# Altium schematic symbol library TC264.SchLib: 64 symbols (part 1 of 2)
Pins are listed as number, name and electrical type; pins without a type are passive.

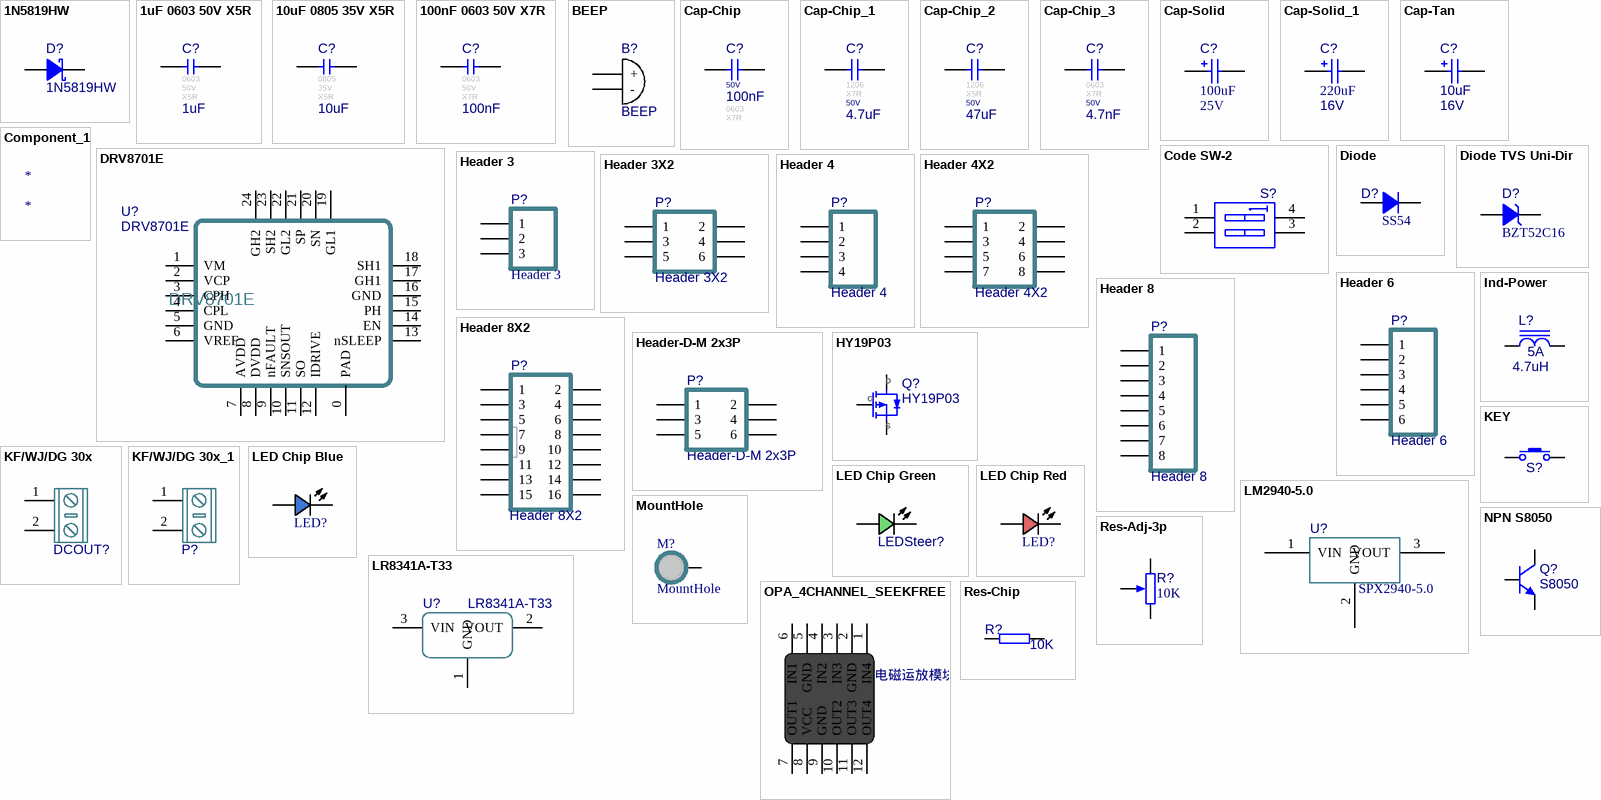
[diagram p0: symbols 1N5819HW to Res-Chip]

## 1N5819HW
designator D?
1N5819HW 肖特基二极管; Revision: V1.0; Value: 1N5819HW
footprint SOD-123-L (SOD Diode;2.70mm W X 1.60mm L X 1.35mm H body)
footprint SOD-323 (SOD Diode;1.65mm W X 1.24mm L X 1.16mm H body)
pins: A, K

## 1uF 0603 50V X5R
designator C?, comment value 1uF  FootPrint: 0603  Voltage: 50V  Type: X5R  (hidden comment: 1uF 50V X5R)
贴片瓷片电容; MLCC; 0603(1608);; Revision: V1.0
footprint CAPC1608[0603]-L (0603贴片电容 无丝印 2脚 1.60x0.80mm IPC高密度)
footprint CAPC1608[0603]-M (0603贴片电容 无丝印 2脚 1.60x0.80mm IPC低密度)
footprint CAPC1608[0603]-N (0603贴片电容 无丝印 2脚 1.60x0.80mm IPC中密度)
footprint CAPC1608[0603]S-L (0603贴片电容 有丝印 2脚 1.60x0.80mm IPC高密度)
footprint CAPC1608[0603]S-M (0603贴片电容 有丝印 2脚 1.60x0.80mm IPC低密度)
footprint CAPC1608[0603]S-N (0603贴片电容 有丝印 2脚 1.60x0.80mm IPC中密度)
pins: 1, 2

## 10uF 0805 35V X5R
designator C?, comment value 10uF  FootPrint: 0805  Voltage: 35V  Type: X5R  (hidden comment: 10uF 35V X5R)
贴片瓷片电容; MLCC; 0805(2012);; Revision: V1.0
footprint CAPC2012[0805] (0805贴片电容 无丝印 2脚 2.00x1.20mm IPC中密度)
footprint CAPC2012[0805]S-L (0805贴片电容 有丝印 2脚 2.00x1.20mm IPC高密度)
footprint CAPC2012[0805]S-M (0805贴片电容 有丝印 2脚 2.00x1.20mm IPC低密度)
footprint CAPC2012[0805]S-N (0805贴片电容 有丝印 2脚 2.00x1.20mm IPC中密度)
pins: 1, 2

## 100nF 0603 50V X7R
designator C?, comment value 100nF  FootPrint: 0603  Voltage: 50V  Type: X7R  (hidden comment: 100nF 50V X7R)
贴片瓷片电容; MLCC; 0603(1608);; Revision: V1.0
footprint CAPC1608[0603]-L (0603贴片电容 无丝印 2脚 1.60x0.80mm IPC高密度)
footprint CAPC1608[0603]-M (0603贴片电容 无丝印 2脚 1.60x0.80mm IPC低密度)
footprint CAPC1608[0603]-N (0603贴片电容 无丝印 2脚 1.60x0.80mm IPC中密度)
footprint CAPC1608[0603]S-L (0603贴片电容 有丝印 2脚 1.60x0.80mm IPC高密度)
footprint CAPC1608[0603]S-M (0603贴片电容 有丝印 2脚 1.60x0.80mm IPC低密度)
footprint CAPC1608[0603]S-N (0603贴片电容 有丝印 2脚 1.60x0.80mm IPC中密度)
pins: 1, 2

## BEEP
designator B?
蜂鸣器
footprint BEEP 9x5.5mm
footprint BEEP 12x9.5mm
pins: 1 +, 2 -

## Cap-Chip
designator C?, comment value 100nF  Voltage: 50V  Footprint: 0603  Type: X7R  (hidden comment: 100nF ±10% 50V)
贴片电容; Published: 2021-12-13; Revision: V1.2; Tolerance: ±10%
footprint CAPC1310[0504]S (Chip Capacitor, 2-Leads, Body 1.17x1.02mm, IPC Medium Density)
footprint CAPC3216[1206]S (1206贴片电容 有丝印 2脚 3.20x1.60mm IPC中密度)
footprint CAPC3225[1210]S (1210贴片电容 有丝印 2脚 3.20x2.50mm IPC中密度)
footprint CAPC4532[1812]S (Chip Capacitor, Silkscreen Border,2-Leads, Body 4.50x3.20mm, IPC Medium Density)
footprint CAPC4564[1825]S (Chip Capacitor,Silkscreen Border, 2-Leads, Body 4.50x6.40mm, IPC Medium Density)
footprint CAPC2012[0805] (0805贴片电容 无丝印 2脚 2.00x1.20mm IPC中密度)
footprint CAPC3216[1206] (1206贴片电容 无丝印 2脚 3.20x1.60mm IPC中密度)
footprint CAPC3225[1210] (1210贴片电容 无丝印 2脚 3.20x2.50mm IPC中密度)
footprint CAPC4532[1812] (Chip Capacitor, 2-Leads, Body 4.50x3.20mm, IPC Medium Density)
footprint CAPC4564[1825] (Chip Capacitor, 2-Leads, Body 4.50x6.40mm, IPC Medium Density)
footprint CAPC1608[0603]-N (0603贴片电容 无丝印 2脚 1.60x0.80mm IPC中密度)
footprint CAPC1608[0603]-L (0603贴片电容 无丝印 2脚 1.60x0.80mm IPC高密度)
footprint CAPC1608[0603]-M (0603贴片电容 无丝印 2脚 1.60x0.80mm IPC低密度)
footprint CAPC1608[0603]S-L (0603贴片电容 有丝印 2脚 1.60x0.80mm IPC高密度)
footprint CAPC1608[0603]S-M (0603贴片电容 有丝印 2脚 1.60x0.80mm IPC低密度)
footprint CAPC1608[0603]S-N (0603贴片电容 有丝印 2脚 1.60x0.80mm IPC中密度)
footprint CAPC1005[0402]-L (0402贴片电容 无丝印 2脚 1.00x0.50mm IPC高密度)
footprint CAPC1005[0402]-M (0402贴片电容 无丝印 2脚 1.00x0.50mm IPC低密度)
footprint CAPC1005[0402]-N (0402贴片电容 无丝印 2脚 1.00x0.50mm IPC中密度)
footprint CAPC1005[0402]S-L (0402贴片电容 有丝印 2脚 1.00x0.50mm IPC高密度)
footprint CAPC1005[0402]S-M (0402贴片电容 有丝印 2脚 1.00x0.50mm IPC低密度)
footprint CAPC1005[0402]S-N (0402贴片电容 有丝印 2脚 1.00x0.50mm IPC中密度)
footprint CAPC2012[0805]S-L (0805贴片电容 有丝印 2脚 2.00x1.20mm IPC高密度)
footprint CAPC2012[0805]S-M (0805贴片电容 有丝印 2脚 2.00x1.20mm IPC低密度)
footprint CAPC2012[0805]S-N (0805贴片电容 有丝印 2脚 2.00x1.20mm IPC中密度)
footprint CAPC0603[0201]-L (0201贴片电容 无丝印 2脚 0.60x0.30mm IPC高密度)
footprint CAPC0603[0201]-N (0201贴片电容 无丝印 2脚 0.60x0.30mm IPC中密度)
footprint CAPC0603[0201]-M (0201贴片电容 无丝印 2脚 0.60x0.30mm IPC低密度)
footprint CAPC0603[0201]S-L (0201贴片电容 有丝印 2脚 0.60x0.30mm IPC高密度)
footprint CAPC0603[0201]S-M (0201贴片电容 有丝印 2脚 0.60x0.30mm IPC低密度)
footprint CAPC0603[0201]S-N (0201贴片电容 有丝印 2脚 0.60x0.30mm IPC中密度)
pins: 1, 2

## Cap-Chip_1
designator C?, comment value 4.7uF  Footprint: 1206  Type: X7R  Voltage: 50V  (hidden comment: 4.7uF ±10% 50V)
贴片电容; Published: 2021-12-13; Revision: V1.2; Tolerance: ±10%
footprint CAPC1310[0504]S (Chip Capacitor, 2-Leads, Body 1.17x1.02mm, IPC Medium Density)
footprint CAPC3216[1206]S (1206贴片电容 有丝印 2脚 3.20x1.60mm IPC中密度)
footprint CAPC3225[1210]S (1210贴片电容 有丝印 2脚 3.20x2.50mm IPC中密度)
footprint CAPC4532[1812]S (Chip Capacitor, Silkscreen Border,2-Leads, Body 4.50x3.20mm, IPC Medium Density)
footprint CAPC4564[1825]S (Chip Capacitor,Silkscreen Border, 2-Leads, Body 4.50x6.40mm, IPC Medium Density)
footprint CAPC2012[0805] (0805贴片电容 无丝印 2脚 2.00x1.20mm IPC中密度)
footprint CAPC3216[1206] (1206贴片电容 无丝印 2脚 3.20x1.60mm IPC中密度)
footprint CAPC3225[1210] (1210贴片电容 无丝印 2脚 3.20x2.50mm IPC中密度)
footprint CAPC4532[1812] (Chip Capacitor, 2-Leads, Body 4.50x3.20mm, IPC Medium Density)
footprint CAPC4564[1825] (Chip Capacitor, 2-Leads, Body 4.50x6.40mm, IPC Medium Density)
footprint CAPC1608[0603]-N (0603贴片电容 无丝印 2脚 1.60x0.80mm IPC中密度)
footprint CAPC1608[0603]-L (0603贴片电容 无丝印 2脚 1.60x0.80mm IPC高密度)
footprint CAPC1608[0603]-M (0603贴片电容 无丝印 2脚 1.60x0.80mm IPC低密度)
footprint CAPC1608[0603]S-L (0603贴片电容 有丝印 2脚 1.60x0.80mm IPC高密度)
footprint CAPC1608[0603]S-M (0603贴片电容 有丝印 2脚 1.60x0.80mm IPC低密度)
footprint CAPC1608[0603]S-N (0603贴片电容 有丝印 2脚 1.60x0.80mm IPC中密度)
footprint CAPC1005[0402]-L (0402贴片电容 无丝印 2脚 1.00x0.50mm IPC高密度)
footprint CAPC1005[0402]-M (0402贴片电容 无丝印 2脚 1.00x0.50mm IPC低密度)
footprint CAPC1005[0402]-N (0402贴片电容 无丝印 2脚 1.00x0.50mm IPC中密度)
footprint CAPC1005[0402]S-L (0402贴片电容 有丝印 2脚 1.00x0.50mm IPC高密度)
footprint CAPC1005[0402]S-M (0402贴片电容 有丝印 2脚 1.00x0.50mm IPC低密度)
footprint CAPC1005[0402]S-N (0402贴片电容 有丝印 2脚 1.00x0.50mm IPC中密度)
footprint CAPC2012[0805]S-L (0805贴片电容 有丝印 2脚 2.00x1.20mm IPC高密度)
footprint CAPC2012[0805]S-M (0805贴片电容 有丝印 2脚 2.00x1.20mm IPC低密度)
footprint CAPC2012[0805]S-N (0805贴片电容 有丝印 2脚 2.00x1.20mm IPC中密度)
footprint CAPC0603[0201]-L (0201贴片电容 无丝印 2脚 0.60x0.30mm IPC高密度)
footprint CAPC0603[0201]-N (0201贴片电容 无丝印 2脚 0.60x0.30mm IPC中密度)
footprint CAPC0603[0201]-M (0201贴片电容 无丝印 2脚 0.60x0.30mm IPC低密度)
footprint CAPC0603[0201]S-L (0201贴片电容 有丝印 2脚 0.60x0.30mm IPC高密度)
footprint CAPC0603[0201]S-M (0201贴片电容 有丝印 2脚 0.60x0.30mm IPC低密度)
footprint CAPC0603[0201]S-N (0201贴片电容 有丝印 2脚 0.60x0.30mm IPC中密度)
pins: 1, 2

## Cap-Chip_2
designator C?, comment value 47uF  Footprint: 1206  Type: X5R  Voltage: 50V  (hidden comment: 47uF ±10% 50V)
贴片电容; Published: 2021-12-13; Revision: V1.2; Tolerance: ±10%
footprint CAPC1310[0504]S (Chip Capacitor, 2-Leads, Body 1.17x1.02mm, IPC Medium Density)
footprint CAPC3216[1206]S (1206贴片电容 有丝印 2脚 3.20x1.60mm IPC中密度)
footprint CAPC3225[1210]S (1210贴片电容 有丝印 2脚 3.20x2.50mm IPC中密度)
footprint CAPC4532[1812]S (Chip Capacitor, Silkscreen Border,2-Leads, Body 4.50x3.20mm, IPC Medium Density)
footprint CAPC4564[1825]S (Chip Capacitor,Silkscreen Border, 2-Leads, Body 4.50x6.40mm, IPC Medium Density)
footprint CAPC2012[0805] (0805贴片电容 无丝印 2脚 2.00x1.20mm IPC中密度)
footprint CAPC3216[1206] (1206贴片电容 无丝印 2脚 3.20x1.60mm IPC中密度)
footprint CAPC3225[1210] (1210贴片电容 无丝印 2脚 3.20x2.50mm IPC中密度)
footprint CAPC4532[1812] (Chip Capacitor, 2-Leads, Body 4.50x3.20mm, IPC Medium Density)
footprint CAPC4564[1825] (Chip Capacitor, 2-Leads, Body 4.50x6.40mm, IPC Medium Density)
footprint CAPC1608[0603]-N (0603贴片电容 无丝印 2脚 1.60x0.80mm IPC中密度)
footprint CAPC1608[0603]-L (0603贴片电容 无丝印 2脚 1.60x0.80mm IPC高密度)
footprint CAPC1608[0603]-M (0603贴片电容 无丝印 2脚 1.60x0.80mm IPC低密度)
footprint CAPC1608[0603]S-L (0603贴片电容 有丝印 2脚 1.60x0.80mm IPC高密度)
footprint CAPC1608[0603]S-M (0603贴片电容 有丝印 2脚 1.60x0.80mm IPC低密度)
footprint CAPC1608[0603]S-N (0603贴片电容 有丝印 2脚 1.60x0.80mm IPC中密度)
footprint CAPC1005[0402]-L (0402贴片电容 无丝印 2脚 1.00x0.50mm IPC高密度)
footprint CAPC1005[0402]-M (0402贴片电容 无丝印 2脚 1.00x0.50mm IPC低密度)
footprint CAPC1005[0402]-N (0402贴片电容 无丝印 2脚 1.00x0.50mm IPC中密度)
footprint CAPC1005[0402]S-L (0402贴片电容 有丝印 2脚 1.00x0.50mm IPC高密度)
footprint CAPC1005[0402]S-M (0402贴片电容 有丝印 2脚 1.00x0.50mm IPC低密度)
footprint CAPC1005[0402]S-N (0402贴片电容 有丝印 2脚 1.00x0.50mm IPC中密度)
footprint CAPC2012[0805]S-L (0805贴片电容 有丝印 2脚 2.00x1.20mm IPC高密度)
footprint CAPC2012[0805]S-M (0805贴片电容 有丝印 2脚 2.00x1.20mm IPC低密度)
footprint CAPC2012[0805]S-N (0805贴片电容 有丝印 2脚 2.00x1.20mm IPC中密度)
footprint CAPC0603[0201]-L (0201贴片电容 无丝印 2脚 0.60x0.30mm IPC高密度)
footprint CAPC0603[0201]-N (0201贴片电容 无丝印 2脚 0.60x0.30mm IPC中密度)
footprint CAPC0603[0201]-M (0201贴片电容 无丝印 2脚 0.60x0.30mm IPC低密度)
footprint CAPC0603[0201]S-L (0201贴片电容 有丝印 2脚 0.60x0.30mm IPC高密度)
footprint CAPC0603[0201]S-M (0201贴片电容 有丝印 2脚 0.60x0.30mm IPC低密度)
footprint CAPC0603[0201]S-N (0201贴片电容 有丝印 2脚 0.60x0.30mm IPC中密度)
pins: 1, 2

## Cap-Chip_3
designator C?, comment value 4.7nF  Footprint: 0603  Type: X7R  Voltage: 50V  (hidden comment: 4.7nF ±10% 50V)
贴片电容; Published: 2021-12-13; Revision: V1.2; Tolerance: ±10%
footprint CAPC1310[0504]S (Chip Capacitor, 2-Leads, Body 1.17x1.02mm, IPC Medium Density)
footprint CAPC3216[1206]S (1206贴片电容 有丝印 2脚 3.20x1.60mm IPC中密度)
footprint CAPC3225[1210]S (1210贴片电容 有丝印 2脚 3.20x2.50mm IPC中密度)
footprint CAPC4532[1812]S (Chip Capacitor, Silkscreen Border,2-Leads, Body 4.50x3.20mm, IPC Medium Density)
footprint CAPC4564[1825]S (Chip Capacitor,Silkscreen Border, 2-Leads, Body 4.50x6.40mm, IPC Medium Density)
footprint CAPC2012[0805] (0805贴片电容 无丝印 2脚 2.00x1.20mm IPC中密度)
footprint CAPC3216[1206] (1206贴片电容 无丝印 2脚 3.20x1.60mm IPC中密度)
footprint CAPC3225[1210] (1210贴片电容 无丝印 2脚 3.20x2.50mm IPC中密度)
footprint CAPC4532[1812] (Chip Capacitor, 2-Leads, Body 4.50x3.20mm, IPC Medium Density)
footprint CAPC4564[1825] (Chip Capacitor, 2-Leads, Body 4.50x6.40mm, IPC Medium Density)
footprint CAPC1608[0603]-N (0603贴片电容 无丝印 2脚 1.60x0.80mm IPC中密度)
footprint CAPC1608[0603]-L (0603贴片电容 无丝印 2脚 1.60x0.80mm IPC高密度)
footprint CAPC1608[0603]-M (0603贴片电容 无丝印 2脚 1.60x0.80mm IPC低密度)
footprint CAPC1608[0603]S-L (0603贴片电容 有丝印 2脚 1.60x0.80mm IPC高密度)
footprint CAPC1608[0603]S-M (0603贴片电容 有丝印 2脚 1.60x0.80mm IPC低密度)
footprint CAPC1608[0603]S-N (0603贴片电容 有丝印 2脚 1.60x0.80mm IPC中密度)
footprint CAPC1005[0402]-L (0402贴片电容 无丝印 2脚 1.00x0.50mm IPC高密度)
footprint CAPC1005[0402]-M (0402贴片电容 无丝印 2脚 1.00x0.50mm IPC低密度)
footprint CAPC1005[0402]-N (0402贴片电容 无丝印 2脚 1.00x0.50mm IPC中密度)
footprint CAPC1005[0402]S-L (0402贴片电容 有丝印 2脚 1.00x0.50mm IPC高密度)
footprint CAPC1005[0402]S-M (0402贴片电容 有丝印 2脚 1.00x0.50mm IPC低密度)
footprint CAPC1005[0402]S-N (0402贴片电容 有丝印 2脚 1.00x0.50mm IPC中密度)
footprint CAPC2012[0805]S-L (0805贴片电容 有丝印 2脚 2.00x1.20mm IPC高密度)
footprint CAPC2012[0805]S-M (0805贴片电容 有丝印 2脚 2.00x1.20mm IPC低密度)
footprint CAPC2012[0805]S-N (0805贴片电容 有丝印 2脚 2.00x1.20mm IPC中密度)
footprint CAPC0603[0201]-L (0201贴片电容 无丝印 2脚 0.60x0.30mm IPC高密度)
footprint CAPC0603[0201]-N (0201贴片电容 无丝印 2脚 0.60x0.30mm IPC中密度)
footprint CAPC0603[0201]-M (0201贴片电容 无丝印 2脚 0.60x0.30mm IPC低密度)
footprint CAPC0603[0201]S-L (0201贴片电容 有丝印 2脚 0.60x0.30mm IPC高密度)
footprint CAPC0603[0201]S-M (0201贴片电容 有丝印 2脚 0.60x0.30mm IPC低密度)
footprint CAPC0603[0201]S-N (0201贴片电容 有丝印 2脚 0.60x0.30mm IPC中密度)
pins: 1, 2

## Cap-Solid
designator C?, comment value 100uF  Voltage: 25V  (hidden comment: 100uF 25V)
Polarized Capacitor (Radial); Published: 8-Jun-2000; Revision: July-2002: Re-released for DXP Platform.; Publisher: Altium Limited; Price(RMB): 0.000
footprint CAPS4 (Solid Electorlytic Capacitor, B-type Footprint, 4mm Diameter, 5.5mm Height)
footprint CAPS5 (Solid Electorlytic Capacitor, D-type Footprint, 5mm Diameter, 5.5mm Height)
footprint CAPS6.3 (Solid Electorlytic Capacitor, E-type Footprint, 6.3mm Diameter, 5.5mm Height)
footprint CAPS8 (Solid Electorlytic Capacitor, G-type Footprint, 8mm Diameter, 10mm Height)
footprint CAPS10 (Solid Electorlytic Capacitor, H-type Footprint, 10mm Diameter, 10mm Height)
pins: 1, 2

## Cap-Solid_1
designator C?, comment value 220uF  Voltage: 16V  (hidden comment: 220uF 16V)
Polarized Capacitor (Radial); Published: 8-Jun-2000; Revision: July-2002: Re-released for DXP Platform.; Publisher: Altium Limited; Price(RMB): 0.000
footprint CAPS4 (Solid Electorlytic Capacitor, B-type Footprint, 4mm Diameter, 5.5mm Height)
footprint CAPS5 (Solid Electorlytic Capacitor, D-type Footprint, 5mm Diameter, 5.5mm Height)
footprint CAPS6.3 (Solid Electorlytic Capacitor, E-type Footprint, 6.3mm Diameter, 5.5mm Height)
footprint CAPS8 (Solid Electorlytic Capacitor, G-type Footprint, 8mm Diameter, 10mm Height)
footprint CAPS10 (Solid Electorlytic Capacitor, H-type Footprint, 10mm Diameter, 10mm Height)
pins: 1, 2

## Cap-Tan
designator C?, comment value 10uF  Voltage: 16V  (hidden comment: 10uF 16V)
Tantalum Capacitor; Published: 8-Jun-2000; Revision: July-2002: Re-released for DXP Platform.; Publisher: Altium Limited; Price(RMB): 0.000
footprint CAPT3216 (Molded (Tantalum) Capacitor, 2-Leads, Body 3.20x1.60mm, IPC Medium Density)
footprint CAPT3528 (Molded Tantalum Capacitor, 2-Leads, Body 3.50x2.80mm, IPC Medium Density)
footprint CAPT6032 (Molded Tantalum Capacitor, 2-Leads, Body 6.00x3.20mm, IPC Medium Density)
footprint CAPT7343 (Molded Tantalum Capacitor, 2-Leads, Body 7.30x4.30mm, IPC Medium Density)
footprint CAPT7361 (Molded Tantalum Capacitor, 2-Leads, Body 7.30x6.10mm, IPC Medium Density)
pins: 1, 2

## Code SW-2
designator S?, comment SW DIP-2  (value not drawn)
2位拨码开关; Published: 24-Mar-1999; Revision: July-2002: Re-released for DXP Platform.; Publisher: Altium Limited; Price(RMB): 0.000
footprint Code SW-2-SMD-1.27 (1.27间距 表贴式 2位 拨码开关)
footprint Code SW-2-DIP-2.54 (2位直插拨码开关 间距2.54)
pins: 1 A1, 2 A2, 3 B2, 4 B1

## Component_1
designator *

## Diode
designator D?, comment SS54
普通二极管 Diode; Imax: 500mA; Published: 8-Jun-2000; Revision: July-2002: Re-released for DXP Platform.; Publisher: Altium Limited; Price(RMB): 0.000
footprint SMB[DO-214AA] (Molded Diode, 2-Leads, Body 5.30x3.55mm, IPC Medium Density)
footprint SMC[DO-214AB] (Molded Diode, 2-Leads, Body 7.94x5.90mm, IPC Medium Density)
footprint SMA[DO-214AC] (Molded Diode, 2-Leads, Body 5.00x2.49mm, IPC Medium Density)
footprint SOD-123-FL (SOD Diode;2.70mm W X 1.60mm L X 1.35mm H body)
footprint SOD-123-M (SOD Diode;2.70mm W X 1.60mm L X 1.35mm H body)
footprint SOD-323 (SOD Diode;1.65mm W X 1.24mm L X 1.16mm H body)
footprint SOD-523-L (SODFL Diode;1.20mm W X 0.80mm L X 0.70mm H body)
footprint SOD-523-M (SODFL Diode;1.20mm W X 0.80mm L X 0.70mm H body)
footprint SOD-123-L (SOD Diode;2.70mm W X 1.60mm L X 1.35mm H body)
pins: A, K

## Diode TVS Uni-Dir
designator D?, comment BZT52C16
TRANSIENT VOLTAGE  SUPPRESSOR DIODE; Imax: 500mA; Published: 8-Jun-2000; Publisher: Altium Limited; Price(RMB): 0.000
footprint DO-41 (Diode,Axial;8.30mm C X 0.70mm W 4.60mm L X 2.40mm Dia)
footprint SMA[DO-214AC] (Molded Diode, 2-Leads, Body 5.00x2.49mm, IPC Medium Density)
footprint SMB[DO-214AA] (Molded Diode, 2-Leads, Body 5.30x3.55mm, IPC Medium Density)
footprint SMC[DO-214AB] (Molded Diode, 2-Leads, Body 7.94x5.90mm, IPC Medium Density)
footprint SOD-123-FL (SOD Diode;2.70mm W X 1.60mm L X 1.35mm H body)
footprint SOD-323 (SOD Diode;1.65mm W X 1.24mm L X 1.16mm H body)
footprint SOD-123-L (SOD Diode;2.70mm W X 1.60mm L X 1.35mm H body)
footprint SOD-523-L (SODFL Diode;1.20mm W X 0.80mm L X 0.70mm H body)
footprint SOD-123-M (SOD Diode;2.70mm W X 1.60mm L X 1.35mm H body)
footprint SOD-523-M (SODFL Diode;1.20mm W X 0.80mm L X 0.70mm H body)
pins: A, K

## DRV8701E
designator U?
DRV8701E Ti全桥驱动芯片
footprint QFN24-4x4
pins: 0 PAD, 1 VM, 2 VCP, 3 CPH, 4 CPL, 5 GND, 6 VREF, 7 AVDD, 8 DVDD, 9 nFAULT, 10 SNSOUT, 11 SO, 12 IDRIVE, 13 nSLEEP, 14 EN, 15 PH, 16 GND, 17 GH1, 18 SH1, 19 GL1, 20 SN, 21 SP, 22 GL2, 23 SH2, 24 GH2

## Header 3
designator P?
Header, 3-Pin; LatestRevisionDate: 17-Jul-2002; LatestRevisionNote: Re-released for DXP Platform.; Publisher: Altium Limited; Price(RMB): 0.00
footprint HDR1X3 (Connector; Header; 3 Position)
signal-integrity model Connector
footprint XH2.54-3
footprint VH3.96-3
footprint PH2.0-3
footprint GH1.25T-3P (线对板 1.25mm间距 3P 表贴连接座)
footprint XH2.54-3-L (XH2.54 卧式 三针白色插座)
footprint XH2.54-WS-3P (长：12.5mm，宽：8mm，高：6.1mm   淘宝ID:黄晶宝石   店铺网址:https://shop463601444.taobao.com)
footprint MX1.25T-3P-H (线对板 MX1.25mm间距 3P 平插 表贴连接座)
footprint MX1.25T-3P-V (线对板 MX1.25mm间距 3P 立式 表贴连接座)
pins: 1, 2, 3

## Header 3X2
designator P?
Header, 3-Pin, Dual row; LatestRevisionDate: 17-Jul-2002; LatestRevisionNote: Re-released for DXP Platform.; Publisher: Altium Limited; Price(RMB): 0.00
signal-integrity model Connector
footprint HDR2X3 (Connector; Header; 3x2 Position)
footprint HDR2X3-M-SMT
footprint HDR2X3-F-SMT (2x3pin, 2.54mm间距, SMT, 直排母)
pins: 1, 2, 3, 4, 5, 6

## Header 4
designator P?
Header, 4-Pin; LatestRevisionDate: 17-Jul-2002; LatestRevisionNote: Re-released for DXP Platform.; Publisher: Altium Limited; Price(RMB): 0.00
signal-integrity model Connector
footprint HDR1X4 (Connector; Header; 4 Position)
footprint XH2.54-4
footprint VH3.96-4
footprint PH2.0-4 (PH2.0 4 pin)
footprint HDR1X4_Download (4pin下载接口)
footprint HDR1X4-NS (2.54间距, 4Pin, 直插排针, 无丝印)
footprint GH1.25T-4P (线对板 1.25mm间距 4P 表贴连接座)
footprint XH2.54-4-L (XH2.54 卧式 四针白色插座)
footprint HDR1X4-TP (2.54mm间距,表面焊盘)
footprint HDR1X4-TP-NS (2.54mm间距,表面焊盘 无丝印)
pins: 1, 2, 3, 4

## Header 4X2
designator P?
Header, 4-Pin, Dual row; LatestRevisionDate: 17-Jul-2002; LatestRevisionNote: Re-released for DXP Platform.; Publisher: Altium Limited; Price(RMB): 0.00
footprint HDR2X4 (Connector; Header; 4x2 Position)
signal-integrity model Connector
footprint Female-Header-2.54-SMD-8
footprint HDR2X4-M-SMT (2x4pin, 2.54mm间距, SMT, 直排针)
footprint HDR2X4-F-SMT (2x4pin, 2.54mm间距, SMT, 直排母)
pins: 1, 2, 3, 4, 5, 6, 7, 8

## Header 6
designator P?
Header, 6-Pin; LatestRevisionDate: 17-Jul-2002; LatestRevisionNote: Re-released for DXP Platform.; Publisher: Altium Limited; Price(RMB): 0.00
footprint HDR1X6 (Connector; Header; 6 Position)
signal-integrity model Connector
footprint PH2.0-6 (PH2.0 9 pin)
footprint XH2.54-6
footprint VH3.96-6
footprint GH1.25T-6P (线对板 1.25mm间距 6P 表贴连接座)
footprint ZH1.5-WF-6P
pins: 1, 2, 3, 4, 5, 6

## Header 8
designator P?
Header, 8-Pin; LatestRevisionDate: 17-Jul-2002; LatestRevisionNote: Re-released for DXP Platform.; Publisher: Altium Limited; Price(RMB): 0.00
footprint HDR1X8 (Connector; Header; 8 Position)
signal-integrity model Connector
footprint XH2.54V-8
footprint XH2.54-8
footprint VH3.96-8
footprint PH2.0-8 (PH2.0 9 pin)
footprint GH1.25T-8P (线对板 1.25mm间距 8P 表贴连接座)
pins: 1, 2, 3, 4, 5, 6, 7, 8

## Header 8X2
designator P?
Header, 8-Pin, Dual row; LatestRevisionDate: 17-Jul-2002; LatestRevisionNote: Re-released for DXP Platform.; Publisher: Altium Limited; Price(RMB): 0.00
footprint HDR2X8 (Connector; Header; 8x2 Position)
signal-integrity model Connector
footprint IDC2.54-16
footprint HDR2X8-M-SMT (2x8pin, 2.54mm间距, SMT, 直排针)
footprint HDR2X8-F-SMT (2x8pin, 2.54mm间距, SMT, 直排母)
footprint HDR2X8-F-High (加高 2x8 直插排座)
pins: 1, 2, 3, 4, 5, 6, 7, 8, 9, 10, 11, 12, 13, 14, 15, 16

## Header-D-M 2x3P
designator P?
2x3pin, 直插, 双排针; Revision: V1.0; Value: Header-D-M 2x3P
footprint HDR2X3-M (2x3pin, 2.54mm间距, 直插, 直排针)
pins: 1, 2, 3, 4, 5, 6

## HY19P03
designator Q?
HY19P03 P-Channel MOSFET
footprint TO-252AA (D-PAK, 4-Leads, Body 6.1x6.5mm, Pitch 2.28mm, Lead Span 9.8mm, IPC Low Density)
pins: 1 D, 2 G, 3 S

## Ind-Power
designator L?, comment value 4.7uH  Imax: 5A  (hidden comment: 4.7uH 5A)
功率电感; DCR: .5m; Published: 8-Jun-2000; Revision: July-2002: Re-released for DXP Platform.; Publisher: Altium Limited; Price(RMB): 0.000
footprint CD31
footprint CD32
footprint CD42
footprint CD43
footprint CD52
footprint CD53
footprint CD54
footprint CD73
footprint CD75
footprint CD104
footprint CD105
footprint CD106
footprint 127 Shielded 12.5*12.5*7 (12.5mmx12.5mmx7mm 屏蔽电感)
footprint 0630 TPC 7*7*3 (12mmx12mmx6.5mm 一体成型功率电感)
footprint 1050 TPC 10*10*5 (12mmx12mmx6.5mm 一体成型功率电感)
footprint 1265 TPC 12*12*6.5 (12mmx12mmx6.5mm 一体成型功率电感)
footprint CD104R
footprint SLO2520
footprint 1365 TPC 13*13*6.5 (13mmx13mmx6.5mm 一体成型功率电感)
footprint INDUCTOR (工字电感 安装板专用封装)
footprint 0402 TPC 4*4*2 (4.2mm x 4.4mm x 2mm 一体成型功率电感)
pins: 1, 2

## KEY
designator S?, comment Button  (value not drawn)
按键; Published: 24-Mar-1999; Publisher: Altium Limited; Price(RMB): 0.000
footprint KEY-2-SMD-3*4 (龟仔按键 3*4)
footprint KEY-4-DIP-6*6 (6x6 直插按键封装)
footprint PTS810-3*4-CurvePin (3*4 白色 汽车遥控器贴片按键 包脚)
footprint KEY-2-SMD-3*6-L (3x6贴片按键 高密度)
footprint KEY-2-SMD-3*6-M (3x6贴片按键 低密度)
footprint KEY-4-SMD-6*6 (6x6贴片按键封装)
footprint KEY-2-SMD-Side-3*6*3.5 (7.6x3.5mm 侧按按键)
footprint KEY-4-SMD-12*12 (6x6贴片按键封装)
footprint TS-1809SM-A (3*3.5 贴片4脚按键 (TS-A015))
pins: 1, 2

## KF/WJ/DG 30x
designator DCOUT?, comment KF/WJ/DG 30x connecter  (value not drawn)
接线端子 2Pin
footprint KF/WJ/DG 301-2p-5.0mm (2P 5.08mm间距 接线端子)
pins: 1, 2

## KF/WJ/DG 30x_1
designator P?, comment KF/WJ/DG 30x connecter  (value not drawn)
接线端子 2Pin
footprint KF/WJ/DG 301-2p-5.0mm (2P 5.08mm间距 接线端子)
pins: 1, 2

## LED Chip Blue
designator LED?, comment 蓝色贴片LED  (value not drawn)
Color: Blue; Published: 8-Jun-2000; Revision: July-2002: Re-released for DXP Platform.; Publisher: Altium Limited; Price(RMB): 0.00
footprint LEDC1608(0603) (LED,Chip;1.60mm L X 0.80mm W X 0.80mm H)
footprint LEDC2012(0805) (LED,Chip;2.00mm L X 1.25mm W X 1.20mm H)
footprint LEDC3216(1206) (LED,Chip;3.20mm L X 1.60mm W X 1.30mm H)
footprint LEDC1608(0603)-L (LED,Chip;1.60mm L X 0.80mm W X 0.80mm H)
footprint LEDC2012(0805)-L (LED,Chip;2.00mm L X 1.25mm W X 1.20mm H)
footprint LEDC3216(1204) (LED,Chip;3.20mm L X 1.60mm W X 1.30mm H)
footprint LEDC3528-2 (3528 2脚 贴片LED)
pins: A, C

## LED Chip Green
designator LEDSteer?, comment 翠绿贴片LED  (value not drawn)
Published: 8-Jun-2000; Revision: July-2002: Re-released for DXP Platform.; Publisher: Altium Limited; Price(RMB): 0.00
footprint LEDC1608(0603) (LED,Chip;1.60mm L X 0.80mm W X 0.80mm H)
footprint LEDC2012(0805) (LED,Chip;2.00mm L X 1.25mm W X 1.20mm H)
footprint LEDC3216(1206) (LED,Chip;3.20mm L X 1.60mm W X 1.30mm H)
footprint LEDC1608(0603)-L (LED,Chip;1.60mm L X 0.80mm W X 0.80mm H)
footprint LEDC2012(0805)-L (LED,Chip;2.00mm L X 1.25mm W X 1.20mm H)
footprint LEDC3216(1204) (LED,Chip;3.20mm L X 1.60mm W X 1.30mm H)
footprint LEDC3528-2 (3528 2脚 贴片LED)
pins: A, C

## LED Chip Red
designator LED?, comment 红色贴片LED  (value not drawn)
Published: 8-Jun-2000; Revision: July-2002: Re-released for DXP Platform.; Publisher: Altium Limited; Price(RMB): 0.00
footprint LEDC1608(0603) (LED,Chip;1.60mm L X 0.80mm W X 0.80mm H)
footprint LEDC2012(0805) (LED,Chip;2.00mm L X 1.25mm W X 1.20mm H)
footprint LEDC3216(1206) (LED,Chip;3.20mm L X 1.60mm W X 1.30mm H)
footprint LEDC1608(0603)-L (LED,Chip;1.60mm L X 0.80mm W X 0.80mm H)
footprint LEDC2012(0805)-L (LED,Chip;2.00mm L X 1.25mm W X 1.20mm H)
footprint LEDC3216(1204) (LED,Chip;3.20mm L X 1.60mm W X 1.30mm H)
footprint LEDC3528-2 (3528 2脚 贴片LED)
pins: A, C

## LM2940-5.0
designator U?, comment SPX2940-5.0
5V LDO TO-263-3
footprint TO-263-3
pins: 1 VIN, 2 GND, 3 VOUT

## LR8341A-T33
designator U?
LDO Vin:40V  Vout:3.3V 100mA ±1% 55dB; Revision: V1.0; Value: LR8341A-T33
footprint SOT-23 (SOT23, 3-Leads, Body 2.90x2.40mm, Pitch 0.95mm, IPC Medium Density)
pins: 1 GND, 2 VOUT, 3 VIN

## MountHole
designator M?  (no BOM)
固定孔
footprint M3-MountHole
footprint M3-MountSlot (M3-MountHole)
footprint M3-MountSlot-Plated (M3-MountHole)
footprint M3-MountHole-4mm (M3-MountHole)
footprint M3-MountHole-5mm (M3-MountHole)
footprint M3-MountHole-6mm (M3-MountHole)
footprint M3-MountHole-7mm (M3-MountHole)
footprint M3-MountHole-8mm (M3-MountHole)
footprint M3-MountHole-9mm (M3-MountHole)
footprint M3-MountHole-10mm (M3-MountHole)
footprint M3-MountHole-11mm (M3-MountHole)
footprint M3-MountHole-12mm (M3-MountHole)
footprint M3-MountHole-13mm (M3-MountHole)
footprint M3-MountHole-14mm (M3-MountHole)
footprint M3-MountHole-15mm (M3-MountHole)
footprint M3-MountHole-16mm (M3-MountHole)
footprint M3-MountHole-17mm (M3-MountHole)
footprint M3-MountHole-18mm (M3-MountHole)
footprint M3-MountHole-19mm (M3-MountHole)
footprint M3-MountHole-20mm (M3-MountHole)
footprint M3-MountHole-Plated-D5.2 (M3-MountHole)
footprint M3-MountHole-Plated-D5.5 (M3-MountHole 外径5.5mm)
footprint M3-MountHole-Plated-D6 (M3-MountHole 外径6mm)
pins: 1

## NPN S8050
designator Q?, comment S8050
Discrete NPN Bipolar Transistor; Published: 8-Jun-2000; Revision: July-2002: Re-released for DXP Platform.; Publisher: Altium Limited; Price(RMB): 0.000; PartNumber: S8050
footprint SOT-23 (SOT23, 3-Leads, Body 2.90x2.40mm, Pitch 0.95mm, IPC Medium Density)
pins: 1 B, 2 E, 3 C

## OPA_4CHANNEL_SEEKFREE
designator 电磁运放模块?, comment OPA_MOD  (value not drawn)  (no BOM)
OPA module
footprint SEEKFREE_4CHANEL_OPAMOD
pins: 1 IN4, 2 GND, 3 IN3, 4 IN2, 5 GND, 6 IN1, 7 OUT1, 8 VCC, 9 GND, 10 OUT2, 11 OUT3, 12 OUT4

## Res-Adj-3p
designator R?, comment 10K
可调电阻; Value: 10K
footprint RESPOT3296 (Precise Multi-Winding Adjustable Resistor)
footprint RESPOTSMALL (Small Pot)
footprint EVM3-3x3ADJ (3x3贴片电位器)
footprint RESPOT3386P (3386P型 单圈带柄电位器)
pins: 1 TOP, 2 BOT, ADJ

## Res-Chip
designator R?, comment value 10K  (hidden comment: 10K ±1%)
贴片电阻; Published: 8-Jun-2000; Revision: July-2002: Re-released for DXP Platform.; Tolerance: ±1%
footprint RESC3225[1210]S (Silkscreen Outside, Chip Resistor, 2-Leads, Body 3.20x2.49mm, IPC Medium Density)
footprint RESC5025[2010]S (Silkscreen Outside, Chip Resistor, 2-Leads, Body 5.00x2.50mm, IPC Medium Density)
footprint RESC6332[2512]S (2512贴片电阻 有丝印 2脚 6.30x3.20mm IPC中密度)
footprint RESC5025[2010] (Chip Resistor, 2-Leads, Body 5.00x2.50mm, IPC Medium Density)
footprint RESC6332[2512] (2512贴片电阻 无丝印 2脚 6.30x3.20mm IPC中密度)
footprint RESC3225[1210] (Chip Resistor, 2-Leads, Body 3.20x2.49mm, IPC Medium Density)
footprint RESC3216[1206] (1206贴片电阻 无丝印 2脚 3.20x1.60mm IPC高密度)
footprint RESC2012[0805] (0805贴片电阻 无丝印 2脚 2.00x1.20mm IPC高密度)
footprint RESC1608[0603]-M (0603贴片电阻 无丝印 2脚 1.60x0.80mm IPC低密度)
footprint RESC1608[0603]-L (0603贴片电阻 无丝印 2脚 1.60x0.80mm IPC高密度)
footprint RESC1608[0603]-N (0603贴片电阻 无丝印 2脚 1.60x0.80mm IPC中密度)
footprint RESC1608[0603]S-L (0603贴片电阻 有丝印 2脚 1.60x0.80mm IPC高密度)
footprint RESC1608[0603]S-M (0603贴片电阻 有丝印 2脚 1.60x0.80mm IPC低密度)
footprint RESC1608[0603]S-N (0603贴片电阻 有丝印 2脚 1.60x0.80mm IPC中密度)
footprint RESC1005[0402]-L (0402贴片电阻 无丝印 2脚 1.00x0.50mm IPC高密度)
footprint RESC1005[0402]-N (0402贴片电阻 无丝印 2脚 1.00x0.50mm IPC中密度)
footprint RESC1005[0402]-M (0402贴片电阻 无丝印 2脚 1.00x0.50mm IPC低密度)
footprint RESC1005[0402]S-L (0402贴片电阻 有丝印 2脚 1.00x0.50mm IPC高密度)
footprint RESC1005[0402]S-M (0402贴片电阻 有丝印 2脚 1.00x0.50mm IPC低密度)
footprint RESC1005[0402]S-N (0402贴片电阻 有丝印 2脚 1.00x0.50mm IPC中密度)
footprint RESC2012[0805]S-L (0805贴片电阻 有丝印 2脚 2.00x1.20mm IPC高密度)
footprint RESC2012[0805]S-M (0805贴片电阻 有丝印 2脚 2.00x1.20mm IPC低密度)
footprint RESC2012[0805]S-N (0805贴片电阻 有丝印 2脚 2.00x1.20mm IPC中密度)
footprint RESC3216[1206]S-L (1206贴片电阻 有丝印 2脚 3.20x1.60mm IPC高密度)
footprint RESC3216[1206]S-M (1206贴片电阻 有丝印 2脚 3.20x1.60mm IPC低密度)
footprint RESC3216[1206]S-N (1206贴片电阻 有丝印 2脚 3.20x1.60mm IPC中密度)
footprint RESC0603[0201]-L (0201贴片电阻 无丝印 2脚 0.60x0.30mm IPC高密度)
footprint RESC0603[0201]-M (0201贴片电阻 无丝印 2脚 0.60x0.30mm IPC低密度)
footprint RESC0603[0201]-N (0201贴片电阻 无丝印 2脚 0.60x0.30mm IPC中密度)
footprint RESC0603[0201]S-L (0201贴片电阻 有丝印 2脚 0.60x0.30mm IPC高密度)
footprint RESC0603[0201]S-M (0201贴片电阻 有丝印 2脚 0.60x0.30mm IPC低密度)
footprint RESC0603[0201]S-N (0201贴片电阻 有丝印 2脚 0.60x0.30mm IPC中密度)
pins: 1, 2
1 alternate drawing of the same symbol

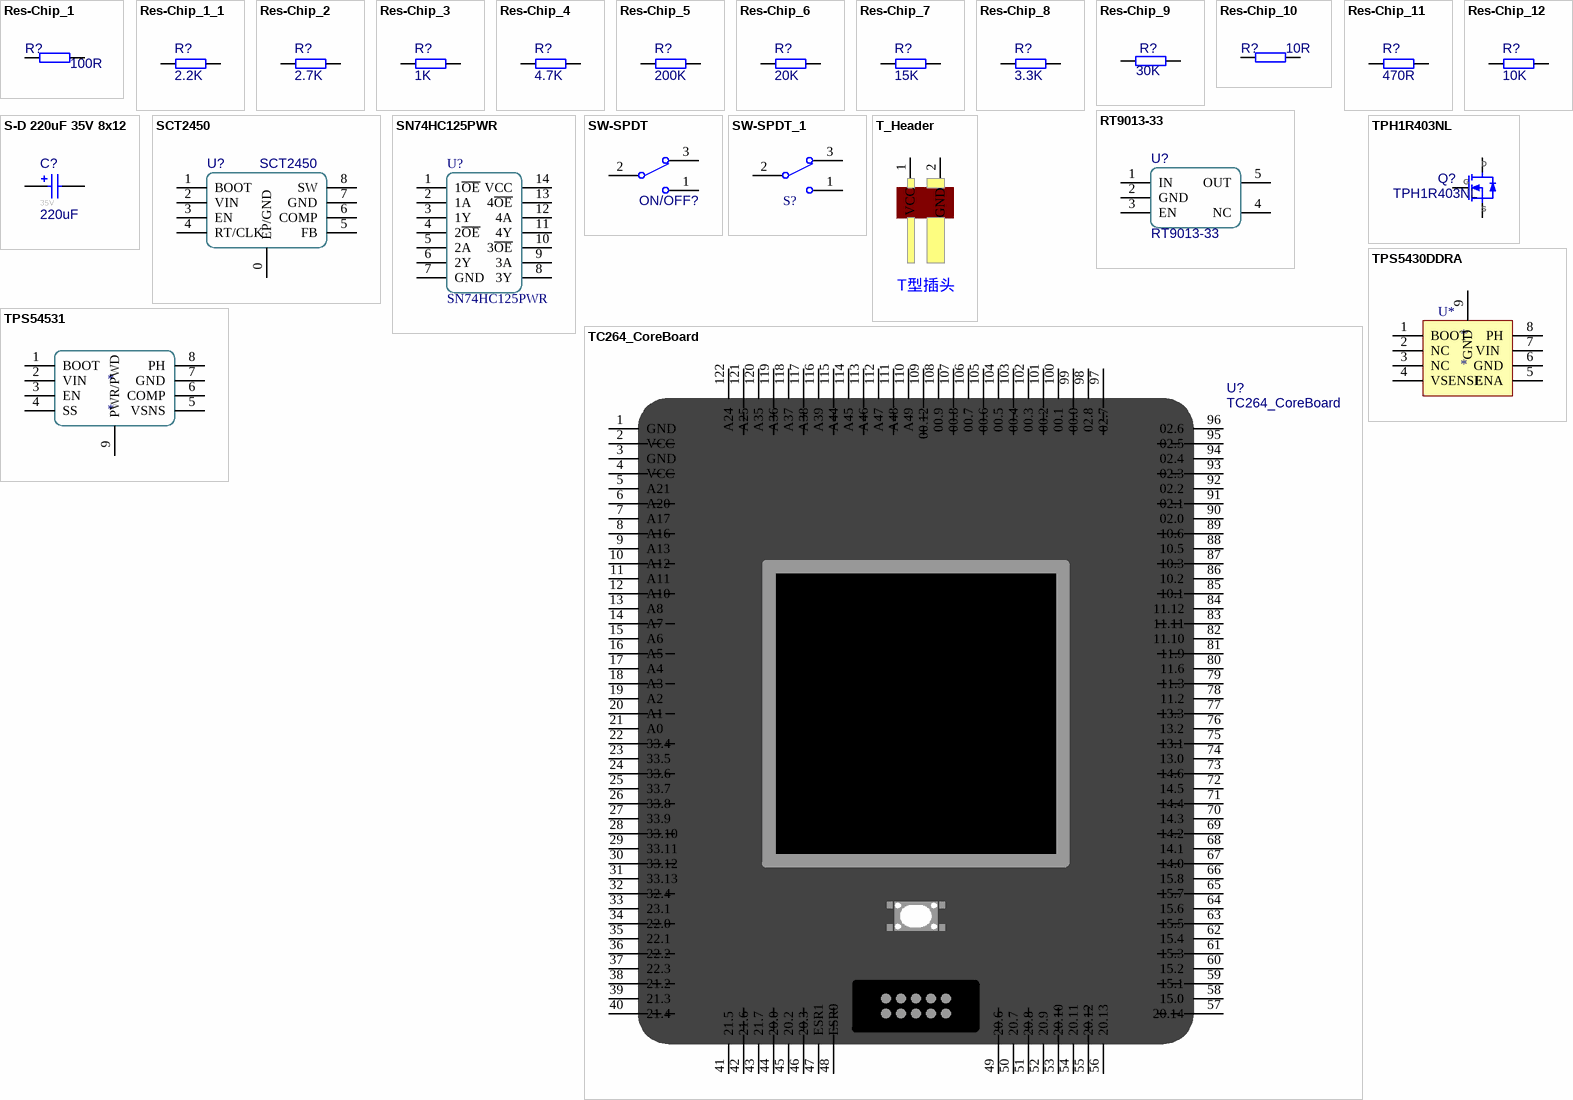
[diagram p1: symbols Res-Chip_1 to TPS54531]

## Res-Chip_1
designator R?, comment value 100R  (hidden comment: 100R ±1%)
贴片电阻; Published: 8-Jun-2000; Revision: July-2002: Re-released for DXP Platform.; Tolerance: ±1%
footprint RESC3225[1210]S (Silkscreen Outside, Chip Resistor, 2-Leads, Body 3.20x2.49mm, IPC Medium Density)
footprint RESC5025[2010]S (Silkscreen Outside, Chip Resistor, 2-Leads, Body 5.00x2.50mm, IPC Medium Density)
footprint RESC6332[2512]S (2512贴片电阻 有丝印 2脚 6.30x3.20mm IPC中密度)
footprint RESC5025[2010] (Chip Resistor, 2-Leads, Body 5.00x2.50mm, IPC Medium Density)
footprint RESC6332[2512] (2512贴片电阻 无丝印 2脚 6.30x3.20mm IPC中密度)
footprint RESC3225[1210] (Chip Resistor, 2-Leads, Body 3.20x2.49mm, IPC Medium Density)
footprint RESC3216[1206] (1206贴片电阻 无丝印 2脚 3.20x1.60mm IPC高密度)
footprint RESC2012[0805] (0805贴片电阻 无丝印 2脚 2.00x1.20mm IPC高密度)
footprint RESC1608[0603]-M (0603贴片电阻 无丝印 2脚 1.60x0.80mm IPC低密度)
footprint RESC1608[0603]-L (0603贴片电阻 无丝印 2脚 1.60x0.80mm IPC高密度)
footprint RESC1608[0603]-N (0603贴片电阻 无丝印 2脚 1.60x0.80mm IPC中密度)
footprint RESC1608[0603]S-L (0603贴片电阻 有丝印 2脚 1.60x0.80mm IPC高密度)
footprint RESC1608[0603]S-M (0603贴片电阻 有丝印 2脚 1.60x0.80mm IPC低密度)
footprint RESC1608[0603]S-N (0603贴片电阻 有丝印 2脚 1.60x0.80mm IPC中密度)
footprint RESC1005[0402]-L (0402贴片电阻 无丝印 2脚 1.00x0.50mm IPC高密度)
footprint RESC1005[0402]-N (0402贴片电阻 无丝印 2脚 1.00x0.50mm IPC中密度)
footprint RESC1005[0402]-M (0402贴片电阻 无丝印 2脚 1.00x0.50mm IPC低密度)
footprint RESC1005[0402]S-L (0402贴片电阻 有丝印 2脚 1.00x0.50mm IPC高密度)
footprint RESC1005[0402]S-M (0402贴片电阻 有丝印 2脚 1.00x0.50mm IPC低密度)
footprint RESC1005[0402]S-N (0402贴片电阻 有丝印 2脚 1.00x0.50mm IPC中密度)
footprint RESC2012[0805]S-L (0805贴片电阻 有丝印 2脚 2.00x1.20mm IPC高密度)
footprint RESC2012[0805]S-M (0805贴片电阻 有丝印 2脚 2.00x1.20mm IPC低密度)
footprint RESC2012[0805]S-N (0805贴片电阻 有丝印 2脚 2.00x1.20mm IPC中密度)
footprint RESC3216[1206]S-L (1206贴片电阻 有丝印 2脚 3.20x1.60mm IPC高密度)
footprint RESC3216[1206]S-M (1206贴片电阻 有丝印 2脚 3.20x1.60mm IPC低密度)
footprint RESC3216[1206]S-N (1206贴片电阻 有丝印 2脚 3.20x1.60mm IPC中密度)
footprint RESC0603[0201]-L (0201贴片电阻 无丝印 2脚 0.60x0.30mm IPC高密度)
footprint RESC0603[0201]-M (0201贴片电阻 无丝印 2脚 0.60x0.30mm IPC低密度)
footprint RESC0603[0201]-N (0201贴片电阻 无丝印 2脚 0.60x0.30mm IPC中密度)
footprint RESC0603[0201]S-L (0201贴片电阻 有丝印 2脚 0.60x0.30mm IPC高密度)
footprint RESC0603[0201]S-M (0201贴片电阻 有丝印 2脚 0.60x0.30mm IPC低密度)
footprint RESC0603[0201]S-N (0201贴片电阻 有丝印 2脚 0.60x0.30mm IPC中密度)
pins: 1, 2
1 alternate drawing of the same symbol

## Res-Chip_1_1
designator R?, comment value 2.2K  (hidden comment: 2.2K ±1%)
贴片电阻; Revision: V1.0; Tolerance: ±1%
footprint RESC0603[0201]-L (0201贴片电阻 无丝印 2脚 0.60x0.30mm IPC高密度)
footprint RESC0603[0201]-M (0201贴片电阻 无丝印 2脚 0.60x0.30mm IPC低密度)
footprint RESC0603[0201]-N (0201贴片电阻 无丝印 2脚 0.60x0.30mm IPC中密度)
footprint RESC0603[0201]S-L (0201贴片电阻 有丝印 2脚 0.60x0.30mm IPC高密度)
footprint RESC0603[0201]S-M (0201贴片电阻 有丝印 2脚 0.60x0.30mm IPC低密度)
footprint RESC0603[0201]S-N (0201贴片电阻 有丝印 2脚 0.60x0.30mm IPC中密度)
footprint RESC1005[0402]-L (0402贴片电阻 无丝印 2脚 1.00x0.50mm IPC高密度)
footprint RESC1005[0402]-M (0402贴片电阻 无丝印 2脚 1.00x0.50mm IPC低密度)
footprint RESC1005[0402]-N (0402贴片电阻 无丝印 2脚 1.00x0.50mm IPC中密度)
footprint RESC1005[0402]S-L (0402贴片电阻 有丝印 2脚 1.00x0.50mm IPC高密度)
footprint RESC1005[0402]S-M (0402贴片电阻 有丝印 2脚 1.00x0.50mm IPC低密度)
footprint RESC1005[0402]S-N (0402贴片电阻 有丝印 2脚 1.00x0.50mm IPC中密度)
footprint RESC1608[0603]-L (0603贴片电阻 无丝印 2脚 1.60x0.80mm IPC高密度)
footprint RESC1608[0603]-M (0603贴片电阻 无丝印 2脚 1.60x0.80mm IPC低密度)
footprint RESC1608[0603]-N (0603贴片电阻 无丝印 2脚 1.60x0.80mm IPC中密度)
footprint RESC1608[0603]S-L (0603贴片电阻 有丝印 2脚 1.60x0.80mm IPC高密度)
footprint RESC1608[0603]S-M (0603贴片电阻 有丝印 2脚 1.60x0.80mm IPC低密度)
footprint RESC1608[0603]S-N (0603贴片电阻 有丝印 2脚 1.60x0.80mm IPC中密度)
footprint RESC2012[0805] (0805贴片电阻 无丝印 2脚 2.00x1.20mm IPC高密度)
footprint RESC2012[0805]S-L (0805贴片电阻 有丝印 2脚 2.00x1.20mm IPC高密度)
footprint RESC2012[0805]S-M (0805贴片电阻 有丝印 2脚 2.00x1.20mm IPC低密度)
footprint RESC2012[0805]S-N (0805贴片电阻 有丝印 2脚 2.00x1.20mm IPC中密度)
footprint RESC3216[1206] (1206贴片电阻 无丝印 2脚 3.20x1.60mm IPC高密度)
footprint RESC3216[1206]S-L (1206贴片电阻 有丝印 2脚 3.20x1.60mm IPC高密度)
footprint RESC3216[1206]S-M (1206贴片电阻 有丝印 2脚 3.20x1.60mm IPC低密度)
footprint RESC3216[1206]S-N (1206贴片电阻 有丝印 2脚 3.20x1.60mm IPC中密度)
footprint RESC3225[1210] (Chip Resistor, 2-Leads, Body 3.20x2.49mm, IPC Medium Density)
footprint RESC3225[1210]S (Silkscreen Outside, Chip Resistor, 2-Leads, Body 3.20x2.49mm, IPC Medium Density)
footprint RESC5025[2010] (Chip Resistor, 2-Leads, Body 5.00x2.50mm, IPC Medium Density)
footprint RESC5025[2010]S (Silkscreen Outside, Chip Resistor, 2-Leads, Body 5.00x2.50mm, IPC Medium Density)
footprint RESC6332[2512] (2512贴片电阻 无丝印 2脚 6.30x3.20mm IPC中密度)
footprint RESC6332[2512]S (2512贴片电阻 有丝印 2脚 6.30x3.20mm IPC中密度)
pins: 1, 2

## Res-Chip_2
designator R?, comment value 2.7K  (hidden comment: 2.7K ±1%)
贴片电阻; Published: 8-Jun-2000; Revision: July-2002: Re-released for DXP Platform.; Tolerance: ±1%
footprint RESC3225[1210]S (Silkscreen Outside, Chip Resistor, 2-Leads, Body 3.20x2.49mm, IPC Medium Density)
footprint RESC5025[2010]S (Silkscreen Outside, Chip Resistor, 2-Leads, Body 5.00x2.50mm, IPC Medium Density)
footprint RESC6332[2512]S (2512贴片电阻 有丝印 2脚 6.30x3.20mm IPC中密度)
footprint RESC5025[2010] (Chip Resistor, 2-Leads, Body 5.00x2.50mm, IPC Medium Density)
footprint RESC6332[2512] (2512贴片电阻 无丝印 2脚 6.30x3.20mm IPC中密度)
footprint RESC3225[1210] (Chip Resistor, 2-Leads, Body 3.20x2.49mm, IPC Medium Density)
footprint RESC3216[1206] (1206贴片电阻 无丝印 2脚 3.20x1.60mm IPC高密度)
footprint RESC2012[0805] (0805贴片电阻 无丝印 2脚 2.00x1.20mm IPC高密度)
footprint RESC1608[0603]-M (0603贴片电阻 无丝印 2脚 1.60x0.80mm IPC低密度)
footprint RESC1608[0603]-L (0603贴片电阻 无丝印 2脚 1.60x0.80mm IPC高密度)
footprint RESC1608[0603]-N (0603贴片电阻 无丝印 2脚 1.60x0.80mm IPC中密度)
footprint RESC1608[0603]S-L (0603贴片电阻 有丝印 2脚 1.60x0.80mm IPC高密度)
footprint RESC1608[0603]S-M (0603贴片电阻 有丝印 2脚 1.60x0.80mm IPC低密度)
footprint RESC1608[0603]S-N (0603贴片电阻 有丝印 2脚 1.60x0.80mm IPC中密度)
footprint RESC1005[0402]-L (0402贴片电阻 无丝印 2脚 1.00x0.50mm IPC高密度)
footprint RESC1005[0402]-N (0402贴片电阻 无丝印 2脚 1.00x0.50mm IPC中密度)
footprint RESC1005[0402]-M (0402贴片电阻 无丝印 2脚 1.00x0.50mm IPC低密度)
footprint RESC1005[0402]S-L (0402贴片电阻 有丝印 2脚 1.00x0.50mm IPC高密度)
footprint RESC1005[0402]S-M (0402贴片电阻 有丝印 2脚 1.00x0.50mm IPC低密度)
footprint RESC1005[0402]S-N (0402贴片电阻 有丝印 2脚 1.00x0.50mm IPC中密度)
footprint RESC2012[0805]S-L (0805贴片电阻 有丝印 2脚 2.00x1.20mm IPC高密度)
footprint RESC2012[0805]S-M (0805贴片电阻 有丝印 2脚 2.00x1.20mm IPC低密度)
footprint RESC2012[0805]S-N (0805贴片电阻 有丝印 2脚 2.00x1.20mm IPC中密度)
footprint RESC3216[1206]S-L (1206贴片电阻 有丝印 2脚 3.20x1.60mm IPC高密度)
footprint RESC3216[1206]S-M (1206贴片电阻 有丝印 2脚 3.20x1.60mm IPC低密度)
footprint RESC3216[1206]S-N (1206贴片电阻 有丝印 2脚 3.20x1.60mm IPC中密度)
footprint RESC0603[0201]-L (0201贴片电阻 无丝印 2脚 0.60x0.30mm IPC高密度)
footprint RESC0603[0201]-M (0201贴片电阻 无丝印 2脚 0.60x0.30mm IPC低密度)
footprint RESC0603[0201]-N (0201贴片电阻 无丝印 2脚 0.60x0.30mm IPC中密度)
footprint RESC0603[0201]S-L (0201贴片电阻 有丝印 2脚 0.60x0.30mm IPC高密度)
footprint RESC0603[0201]S-M (0201贴片电阻 有丝印 2脚 0.60x0.30mm IPC低密度)
footprint RESC0603[0201]S-N (0201贴片电阻 有丝印 2脚 0.60x0.30mm IPC中密度)
pins: 1, 2
1 alternate drawing of the same symbol

## Res-Chip_3
designator R?, comment value 1K  (hidden comment: 1K ±1%)
贴片电阻; Published: 8-Jun-2000; Revision: July-2002: Re-released for DXP Platform.; Tolerance: ±1%
footprint RESC3225[1210]S (Silkscreen Outside, Chip Resistor, 2-Leads, Body 3.20x2.49mm, IPC Medium Density)
footprint RESC5025[2010]S (Silkscreen Outside, Chip Resistor, 2-Leads, Body 5.00x2.50mm, IPC Medium Density)
footprint RESC6332[2512]S (2512贴片电阻 有丝印 2脚 6.30x3.20mm IPC中密度)
footprint RESC5025[2010] (Chip Resistor, 2-Leads, Body 5.00x2.50mm, IPC Medium Density)
footprint RESC6332[2512] (2512贴片电阻 无丝印 2脚 6.30x3.20mm IPC中密度)
footprint RESC3225[1210] (Chip Resistor, 2-Leads, Body 3.20x2.49mm, IPC Medium Density)
footprint RESC3216[1206] (1206贴片电阻 无丝印 2脚 3.20x1.60mm IPC高密度)
footprint RESC2012[0805] (0805贴片电阻 无丝印 2脚 2.00x1.20mm IPC高密度)
footprint RESC1608[0603]-M (0603贴片电阻 无丝印 2脚 1.60x0.80mm IPC低密度)
footprint RESC1608[0603]-L (0603贴片电阻 无丝印 2脚 1.60x0.80mm IPC高密度)
footprint RESC1608[0603]-N (0603贴片电阻 无丝印 2脚 1.60x0.80mm IPC中密度)
footprint RESC1608[0603]S-L (0603贴片电阻 有丝印 2脚 1.60x0.80mm IPC高密度)
footprint RESC1608[0603]S-M (0603贴片电阻 有丝印 2脚 1.60x0.80mm IPC低密度)
footprint RESC1608[0603]S-N (0603贴片电阻 有丝印 2脚 1.60x0.80mm IPC中密度)
footprint RESC1005[0402]-L (0402贴片电阻 无丝印 2脚 1.00x0.50mm IPC高密度)
footprint RESC1005[0402]-N (0402贴片电阻 无丝印 2脚 1.00x0.50mm IPC中密度)
footprint RESC1005[0402]-M (0402贴片电阻 无丝印 2脚 1.00x0.50mm IPC低密度)
footprint RESC1005[0402]S-L (0402贴片电阻 有丝印 2脚 1.00x0.50mm IPC高密度)
footprint RESC1005[0402]S-M (0402贴片电阻 有丝印 2脚 1.00x0.50mm IPC低密度)
footprint RESC1005[0402]S-N (0402贴片电阻 有丝印 2脚 1.00x0.50mm IPC中密度)
footprint RESC2012[0805]S-L (0805贴片电阻 有丝印 2脚 2.00x1.20mm IPC高密度)
footprint RESC2012[0805]S-M (0805贴片电阻 有丝印 2脚 2.00x1.20mm IPC低密度)
footprint RESC2012[0805]S-N (0805贴片电阻 有丝印 2脚 2.00x1.20mm IPC中密度)
footprint RESC3216[1206]S-L (1206贴片电阻 有丝印 2脚 3.20x1.60mm IPC高密度)
footprint RESC3216[1206]S-M (1206贴片电阻 有丝印 2脚 3.20x1.60mm IPC低密度)
footprint RESC3216[1206]S-N (1206贴片电阻 有丝印 2脚 3.20x1.60mm IPC中密度)
footprint RESC0603[0201]-L (0201贴片电阻 无丝印 2脚 0.60x0.30mm IPC高密度)
footprint RESC0603[0201]-M (0201贴片电阻 无丝印 2脚 0.60x0.30mm IPC低密度)
footprint RESC0603[0201]-N (0201贴片电阻 无丝印 2脚 0.60x0.30mm IPC中密度)
footprint RESC0603[0201]S-L (0201贴片电阻 有丝印 2脚 0.60x0.30mm IPC高密度)
footprint RESC0603[0201]S-M (0201贴片电阻 有丝印 2脚 0.60x0.30mm IPC低密度)
footprint RESC0603[0201]S-N (0201贴片电阻 有丝印 2脚 0.60x0.30mm IPC中密度)
pins: 1, 2
1 alternate drawing of the same symbol

## Res-Chip_4
designator R?, comment value 4.7K  (hidden comment: 4.7K ±1%)
贴片电阻; Published: 8-Jun-2000; Revision: July-2002: Re-released for DXP Platform.; Tolerance: ±1%
footprint RESC3225[1210]S (Silkscreen Outside, Chip Resistor, 2-Leads, Body 3.20x2.49mm, IPC Medium Density)
footprint RESC5025[2010]S (Silkscreen Outside, Chip Resistor, 2-Leads, Body 5.00x2.50mm, IPC Medium Density)
footprint RESC6332[2512]S (2512贴片电阻 有丝印 2脚 6.30x3.20mm IPC中密度)
footprint RESC5025[2010] (Chip Resistor, 2-Leads, Body 5.00x2.50mm, IPC Medium Density)
footprint RESC6332[2512] (2512贴片电阻 无丝印 2脚 6.30x3.20mm IPC中密度)
footprint RESC3225[1210] (Chip Resistor, 2-Leads, Body 3.20x2.49mm, IPC Medium Density)
footprint RESC3216[1206] (1206贴片电阻 无丝印 2脚 3.20x1.60mm IPC高密度)
footprint RESC2012[0805] (0805贴片电阻 无丝印 2脚 2.00x1.20mm IPC高密度)
footprint RESC1608[0603]-M (0603贴片电阻 无丝印 2脚 1.60x0.80mm IPC低密度)
footprint RESC1608[0603]-L (0603贴片电阻 无丝印 2脚 1.60x0.80mm IPC高密度)
footprint RESC1608[0603]-N (0603贴片电阻 无丝印 2脚 1.60x0.80mm IPC中密度)
footprint RESC1608[0603]S-L (0603贴片电阻 有丝印 2脚 1.60x0.80mm IPC高密度)
footprint RESC1608[0603]S-M (0603贴片电阻 有丝印 2脚 1.60x0.80mm IPC低密度)
footprint RESC1608[0603]S-N (0603贴片电阻 有丝印 2脚 1.60x0.80mm IPC中密度)
footprint RESC1005[0402]-L (0402贴片电阻 无丝印 2脚 1.00x0.50mm IPC高密度)
footprint RESC1005[0402]-N (0402贴片电阻 无丝印 2脚 1.00x0.50mm IPC中密度)
footprint RESC1005[0402]-M (0402贴片电阻 无丝印 2脚 1.00x0.50mm IPC低密度)
footprint RESC1005[0402]S-L (0402贴片电阻 有丝印 2脚 1.00x0.50mm IPC高密度)
footprint RESC1005[0402]S-M (0402贴片电阻 有丝印 2脚 1.00x0.50mm IPC低密度)
footprint RESC1005[0402]S-N (0402贴片电阻 有丝印 2脚 1.00x0.50mm IPC中密度)
footprint RESC2012[0805]S-L (0805贴片电阻 有丝印 2脚 2.00x1.20mm IPC高密度)
footprint RESC2012[0805]S-M (0805贴片电阻 有丝印 2脚 2.00x1.20mm IPC低密度)
footprint RESC2012[0805]S-N (0805贴片电阻 有丝印 2脚 2.00x1.20mm IPC中密度)
footprint RESC3216[1206]S-L (1206贴片电阻 有丝印 2脚 3.20x1.60mm IPC高密度)
footprint RESC3216[1206]S-M (1206贴片电阻 有丝印 2脚 3.20x1.60mm IPC低密度)
footprint RESC3216[1206]S-N (1206贴片电阻 有丝印 2脚 3.20x1.60mm IPC中密度)
footprint RESC0603[0201]-L (0201贴片电阻 无丝印 2脚 0.60x0.30mm IPC高密度)
footprint RESC0603[0201]-M (0201贴片电阻 无丝印 2脚 0.60x0.30mm IPC低密度)
footprint RESC0603[0201]-N (0201贴片电阻 无丝印 2脚 0.60x0.30mm IPC中密度)
footprint RESC0603[0201]S-L (0201贴片电阻 有丝印 2脚 0.60x0.30mm IPC高密度)
footprint RESC0603[0201]S-M (0201贴片电阻 有丝印 2脚 0.60x0.30mm IPC低密度)
footprint RESC0603[0201]S-N (0201贴片电阻 有丝印 2脚 0.60x0.30mm IPC中密度)
pins: 1, 2
1 alternate drawing of the same symbol

## Res-Chip_5
designator R?, comment value 200K  (hidden comment: 200K ±1%)
贴片电阻; Published: 8-Jun-2000; Revision: July-2002: Re-released for DXP Platform.; Tolerance: ±1%
footprint RESC3225[1210]S (Silkscreen Outside, Chip Resistor, 2-Leads, Body 3.20x2.49mm, IPC Medium Density)
footprint RESC5025[2010]S (Silkscreen Outside, Chip Resistor, 2-Leads, Body 5.00x2.50mm, IPC Medium Density)
footprint RESC6332[2512]S (2512贴片电阻 有丝印 2脚 6.30x3.20mm IPC中密度)
footprint RESC5025[2010] (Chip Resistor, 2-Leads, Body 5.00x2.50mm, IPC Medium Density)
footprint RESC6332[2512] (2512贴片电阻 无丝印 2脚 6.30x3.20mm IPC中密度)
footprint RESC3225[1210] (Chip Resistor, 2-Leads, Body 3.20x2.49mm, IPC Medium Density)
footprint RESC3216[1206] (1206贴片电阻 无丝印 2脚 3.20x1.60mm IPC高密度)
footprint RESC2012[0805] (0805贴片电阻 无丝印 2脚 2.00x1.20mm IPC高密度)
footprint RESC1608[0603]-M (0603贴片电阻 无丝印 2脚 1.60x0.80mm IPC低密度)
footprint RESC1608[0603]-L (0603贴片电阻 无丝印 2脚 1.60x0.80mm IPC高密度)
footprint RESC1608[0603]-N (0603贴片电阻 无丝印 2脚 1.60x0.80mm IPC中密度)
footprint RESC1608[0603]S-L (0603贴片电阻 有丝印 2脚 1.60x0.80mm IPC高密度)
footprint RESC1608[0603]S-M (0603贴片电阻 有丝印 2脚 1.60x0.80mm IPC低密度)
footprint RESC1608[0603]S-N (0603贴片电阻 有丝印 2脚 1.60x0.80mm IPC中密度)
footprint RESC1005[0402]-L (0402贴片电阻 无丝印 2脚 1.00x0.50mm IPC高密度)
footprint RESC1005[0402]-N (0402贴片电阻 无丝印 2脚 1.00x0.50mm IPC中密度)
footprint RESC1005[0402]-M (0402贴片电阻 无丝印 2脚 1.00x0.50mm IPC低密度)
footprint RESC1005[0402]S-L (0402贴片电阻 有丝印 2脚 1.00x0.50mm IPC高密度)
footprint RESC1005[0402]S-M (0402贴片电阻 有丝印 2脚 1.00x0.50mm IPC低密度)
footprint RESC1005[0402]S-N (0402贴片电阻 有丝印 2脚 1.00x0.50mm IPC中密度)
footprint RESC2012[0805]S-L (0805贴片电阻 有丝印 2脚 2.00x1.20mm IPC高密度)
footprint RESC2012[0805]S-M (0805贴片电阻 有丝印 2脚 2.00x1.20mm IPC低密度)
footprint RESC2012[0805]S-N (0805贴片电阻 有丝印 2脚 2.00x1.20mm IPC中密度)
footprint RESC3216[1206]S-L (1206贴片电阻 有丝印 2脚 3.20x1.60mm IPC高密度)
footprint RESC3216[1206]S-M (1206贴片电阻 有丝印 2脚 3.20x1.60mm IPC低密度)
footprint RESC3216[1206]S-N (1206贴片电阻 有丝印 2脚 3.20x1.60mm IPC中密度)
footprint RESC0603[0201]-L (0201贴片电阻 无丝印 2脚 0.60x0.30mm IPC高密度)
footprint RESC0603[0201]-M (0201贴片电阻 无丝印 2脚 0.60x0.30mm IPC低密度)
footprint RESC0603[0201]-N (0201贴片电阻 无丝印 2脚 0.60x0.30mm IPC中密度)
footprint RESC0603[0201]S-L (0201贴片电阻 有丝印 2脚 0.60x0.30mm IPC高密度)
footprint RESC0603[0201]S-M (0201贴片电阻 有丝印 2脚 0.60x0.30mm IPC低密度)
footprint RESC0603[0201]S-N (0201贴片电阻 有丝印 2脚 0.60x0.30mm IPC中密度)
pins: 1, 2
1 alternate drawing of the same symbol

## Res-Chip_6
designator R?, comment value 20K  (hidden comment: 20K ±1%)
贴片电阻; Published: 8-Jun-2000; Revision: July-2002: Re-released for DXP Platform.; Tolerance: ±1%
footprint RESC3225[1210]S (Silkscreen Outside, Chip Resistor, 2-Leads, Body 3.20x2.49mm, IPC Medium Density)
footprint RESC5025[2010]S (Silkscreen Outside, Chip Resistor, 2-Leads, Body 5.00x2.50mm, IPC Medium Density)
footprint RESC6332[2512]S (2512贴片电阻 有丝印 2脚 6.30x3.20mm IPC中密度)
footprint RESC5025[2010] (Chip Resistor, 2-Leads, Body 5.00x2.50mm, IPC Medium Density)
footprint RESC6332[2512] (2512贴片电阻 无丝印 2脚 6.30x3.20mm IPC中密度)
footprint RESC3225[1210] (Chip Resistor, 2-Leads, Body 3.20x2.49mm, IPC Medium Density)
footprint RESC3216[1206] (1206贴片电阻 无丝印 2脚 3.20x1.60mm IPC高密度)
footprint RESC2012[0805] (0805贴片电阻 无丝印 2脚 2.00x1.20mm IPC高密度)
footprint RESC1608[0603]-M (0603贴片电阻 无丝印 2脚 1.60x0.80mm IPC低密度)
footprint RESC1608[0603]-L (0603贴片电阻 无丝印 2脚 1.60x0.80mm IPC高密度)
footprint RESC1608[0603]-N (0603贴片电阻 无丝印 2脚 1.60x0.80mm IPC中密度)
footprint RESC1608[0603]S-L (0603贴片电阻 有丝印 2脚 1.60x0.80mm IPC高密度)
footprint RESC1608[0603]S-M (0603贴片电阻 有丝印 2脚 1.60x0.80mm IPC低密度)
footprint RESC1608[0603]S-N (0603贴片电阻 有丝印 2脚 1.60x0.80mm IPC中密度)
footprint RESC1005[0402]-L (0402贴片电阻 无丝印 2脚 1.00x0.50mm IPC高密度)
footprint RESC1005[0402]-N (0402贴片电阻 无丝印 2脚 1.00x0.50mm IPC中密度)
footprint RESC1005[0402]-M (0402贴片电阻 无丝印 2脚 1.00x0.50mm IPC低密度)
footprint RESC1005[0402]S-L (0402贴片电阻 有丝印 2脚 1.00x0.50mm IPC高密度)
footprint RESC1005[0402]S-M (0402贴片电阻 有丝印 2脚 1.00x0.50mm IPC低密度)
footprint RESC1005[0402]S-N (0402贴片电阻 有丝印 2脚 1.00x0.50mm IPC中密度)
footprint RESC2012[0805]S-L (0805贴片电阻 有丝印 2脚 2.00x1.20mm IPC高密度)
footprint RESC2012[0805]S-M (0805贴片电阻 有丝印 2脚 2.00x1.20mm IPC低密度)
footprint RESC2012[0805]S-N (0805贴片电阻 有丝印 2脚 2.00x1.20mm IPC中密度)
footprint RESC3216[1206]S-L (1206贴片电阻 有丝印 2脚 3.20x1.60mm IPC高密度)
footprint RESC3216[1206]S-M (1206贴片电阻 有丝印 2脚 3.20x1.60mm IPC低密度)
footprint RESC3216[1206]S-N (1206贴片电阻 有丝印 2脚 3.20x1.60mm IPC中密度)
footprint RESC0603[0201]-L (0201贴片电阻 无丝印 2脚 0.60x0.30mm IPC高密度)
footprint RESC0603[0201]-M (0201贴片电阻 无丝印 2脚 0.60x0.30mm IPC低密度)
footprint RESC0603[0201]-N (0201贴片电阻 无丝印 2脚 0.60x0.30mm IPC中密度)
footprint RESC0603[0201]S-L (0201贴片电阻 有丝印 2脚 0.60x0.30mm IPC高密度)
footprint RESC0603[0201]S-M (0201贴片电阻 有丝印 2脚 0.60x0.30mm IPC低密度)
footprint RESC0603[0201]S-N (0201贴片电阻 有丝印 2脚 0.60x0.30mm IPC中密度)
pins: 1, 2
1 alternate drawing of the same symbol

## Res-Chip_7
designator R?, comment value 15K  (hidden comment: 15K ±1%)
贴片电阻; Published: 8-Jun-2000; Revision: July-2002: Re-released for DXP Platform.; Tolerance: ±1%
footprint RESC3225[1210]S (Silkscreen Outside, Chip Resistor, 2-Leads, Body 3.20x2.49mm, IPC Medium Density)
footprint RESC5025[2010]S (Silkscreen Outside, Chip Resistor, 2-Leads, Body 5.00x2.50mm, IPC Medium Density)
footprint RESC6332[2512]S (2512贴片电阻 有丝印 2脚 6.30x3.20mm IPC中密度)
footprint RESC5025[2010] (Chip Resistor, 2-Leads, Body 5.00x2.50mm, IPC Medium Density)
footprint RESC6332[2512] (2512贴片电阻 无丝印 2脚 6.30x3.20mm IPC中密度)
footprint RESC3225[1210] (Chip Resistor, 2-Leads, Body 3.20x2.49mm, IPC Medium Density)
footprint RESC3216[1206] (1206贴片电阻 无丝印 2脚 3.20x1.60mm IPC高密度)
footprint RESC2012[0805] (0805贴片电阻 无丝印 2脚 2.00x1.20mm IPC高密度)
footprint RESC1608[0603]-M (0603贴片电阻 无丝印 2脚 1.60x0.80mm IPC低密度)
footprint RESC1608[0603]-L (0603贴片电阻 无丝印 2脚 1.60x0.80mm IPC高密度)
footprint RESC1608[0603]-N (0603贴片电阻 无丝印 2脚 1.60x0.80mm IPC中密度)
footprint RESC1608[0603]S-L (0603贴片电阻 有丝印 2脚 1.60x0.80mm IPC高密度)
footprint RESC1608[0603]S-M (0603贴片电阻 有丝印 2脚 1.60x0.80mm IPC低密度)
footprint RESC1608[0603]S-N (0603贴片电阻 有丝印 2脚 1.60x0.80mm IPC中密度)
footprint RESC1005[0402]-L (0402贴片电阻 无丝印 2脚 1.00x0.50mm IPC高密度)
footprint RESC1005[0402]-N (0402贴片电阻 无丝印 2脚 1.00x0.50mm IPC中密度)
footprint RESC1005[0402]-M (0402贴片电阻 无丝印 2脚 1.00x0.50mm IPC低密度)
footprint RESC1005[0402]S-L (0402贴片电阻 有丝印 2脚 1.00x0.50mm IPC高密度)
footprint RESC1005[0402]S-M (0402贴片电阻 有丝印 2脚 1.00x0.50mm IPC低密度)
footprint RESC1005[0402]S-N (0402贴片电阻 有丝印 2脚 1.00x0.50mm IPC中密度)
footprint RESC2012[0805]S-L (0805贴片电阻 有丝印 2脚 2.00x1.20mm IPC高密度)
footprint RESC2012[0805]S-M (0805贴片电阻 有丝印 2脚 2.00x1.20mm IPC低密度)
footprint RESC2012[0805]S-N (0805贴片电阻 有丝印 2脚 2.00x1.20mm IPC中密度)
footprint RESC3216[1206]S-L (1206贴片电阻 有丝印 2脚 3.20x1.60mm IPC高密度)
footprint RESC3216[1206]S-M (1206贴片电阻 有丝印 2脚 3.20x1.60mm IPC低密度)
footprint RESC3216[1206]S-N (1206贴片电阻 有丝印 2脚 3.20x1.60mm IPC中密度)
footprint RESC0603[0201]-L (0201贴片电阻 无丝印 2脚 0.60x0.30mm IPC高密度)
footprint RESC0603[0201]-M (0201贴片电阻 无丝印 2脚 0.60x0.30mm IPC低密度)
footprint RESC0603[0201]-N (0201贴片电阻 无丝印 2脚 0.60x0.30mm IPC中密度)
footprint RESC0603[0201]S-L (0201贴片电阻 有丝印 2脚 0.60x0.30mm IPC高密度)
footprint RESC0603[0201]S-M (0201贴片电阻 有丝印 2脚 0.60x0.30mm IPC低密度)
footprint RESC0603[0201]S-N (0201贴片电阻 有丝印 2脚 0.60x0.30mm IPC中密度)
pins: 1, 2
1 alternate drawing of the same symbol

## Res-Chip_8
designator R?, comment value 3.3K  (hidden comment: 3.3K ±1%)
贴片电阻; Published: 8-Jun-2000; Revision: July-2002: Re-released for DXP Platform.; Tolerance: ±1%
footprint RESC3225[1210]S (Silkscreen Outside, Chip Resistor, 2-Leads, Body 3.20x2.49mm, IPC Medium Density)
footprint RESC5025[2010]S (Silkscreen Outside, Chip Resistor, 2-Leads, Body 5.00x2.50mm, IPC Medium Density)
footprint RESC6332[2512]S (2512贴片电阻 有丝印 2脚 6.30x3.20mm IPC中密度)
footprint RESC5025[2010] (Chip Resistor, 2-Leads, Body 5.00x2.50mm, IPC Medium Density)
footprint RESC6332[2512] (2512贴片电阻 无丝印 2脚 6.30x3.20mm IPC中密度)
footprint RESC3225[1210] (Chip Resistor, 2-Leads, Body 3.20x2.49mm, IPC Medium Density)
footprint RESC3216[1206] (1206贴片电阻 无丝印 2脚 3.20x1.60mm IPC高密度)
footprint RESC2012[0805] (0805贴片电阻 无丝印 2脚 2.00x1.20mm IPC高密度)
footprint RESC1608[0603]-M (0603贴片电阻 无丝印 2脚 1.60x0.80mm IPC低密度)
footprint RESC1608[0603]-L (0603贴片电阻 无丝印 2脚 1.60x0.80mm IPC高密度)
footprint RESC1608[0603]-N (0603贴片电阻 无丝印 2脚 1.60x0.80mm IPC中密度)
footprint RESC1608[0603]S-L (0603贴片电阻 有丝印 2脚 1.60x0.80mm IPC高密度)
footprint RESC1608[0603]S-M (0603贴片电阻 有丝印 2脚 1.60x0.80mm IPC低密度)
footprint RESC1608[0603]S-N (0603贴片电阻 有丝印 2脚 1.60x0.80mm IPC中密度)
footprint RESC1005[0402]-L (0402贴片电阻 无丝印 2脚 1.00x0.50mm IPC高密度)
footprint RESC1005[0402]-N (0402贴片电阻 无丝印 2脚 1.00x0.50mm IPC中密度)
footprint RESC1005[0402]-M (0402贴片电阻 无丝印 2脚 1.00x0.50mm IPC低密度)
footprint RESC1005[0402]S-L (0402贴片电阻 有丝印 2脚 1.00x0.50mm IPC高密度)
footprint RESC1005[0402]S-M (0402贴片电阻 有丝印 2脚 1.00x0.50mm IPC低密度)
footprint RESC1005[0402]S-N (0402贴片电阻 有丝印 2脚 1.00x0.50mm IPC中密度)
footprint RESC2012[0805]S-L (0805贴片电阻 有丝印 2脚 2.00x1.20mm IPC高密度)
footprint RESC2012[0805]S-M (0805贴片电阻 有丝印 2脚 2.00x1.20mm IPC低密度)
footprint RESC2012[0805]S-N (0805贴片电阻 有丝印 2脚 2.00x1.20mm IPC中密度)
footprint RESC3216[1206]S-L (1206贴片电阻 有丝印 2脚 3.20x1.60mm IPC高密度)
footprint RESC3216[1206]S-M (1206贴片电阻 有丝印 2脚 3.20x1.60mm IPC低密度)
footprint RESC3216[1206]S-N (1206贴片电阻 有丝印 2脚 3.20x1.60mm IPC中密度)
footprint RESC0603[0201]-L (0201贴片电阻 无丝印 2脚 0.60x0.30mm IPC高密度)
footprint RESC0603[0201]-M (0201贴片电阻 无丝印 2脚 0.60x0.30mm IPC低密度)
footprint RESC0603[0201]-N (0201贴片电阻 无丝印 2脚 0.60x0.30mm IPC中密度)
footprint RESC0603[0201]S-L (0201贴片电阻 有丝印 2脚 0.60x0.30mm IPC高密度)
footprint RESC0603[0201]S-M (0201贴片电阻 有丝印 2脚 0.60x0.30mm IPC低密度)
footprint RESC0603[0201]S-N (0201贴片电阻 有丝印 2脚 0.60x0.30mm IPC中密度)
pins: 1, 2
1 alternate drawing of the same symbol